# EAGLE library part BIAS-COIL (library ampex)
BIAS TRANSFORMER
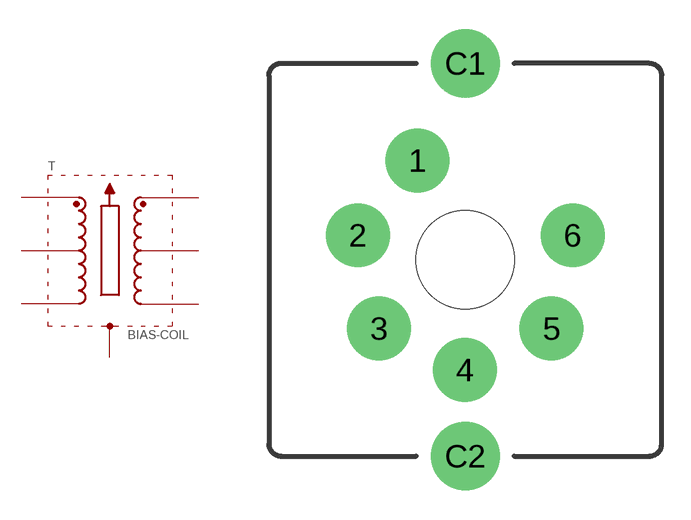
[diagram p24: symbol with the pads of BIAS-COIL; footprint BIAS-COIL]

Designator prefix T

## BIAS-COIL  [BIAS-COIL]
1  1  pas
2  2  pas
3  3  pas
4  4  pas
5  5  pas
6  6  pas
C1  C1  pas
C2  C1  pas

## Footprint BIAS-COIL (pad centres in mm)
BIAS TRANSFORMER
drill 1.778 pad 3.302: 1 -2.473,5.135; 2 -5.557,1.268; 3 -4.456,-3.554; 4 -0.011,-5.7; 5 4.456,-3.554; 6 5.557,1.268
drill 1.778 pad 3.556: C1 0,10.16; C2 0,-10.16
hole 5.08 at 0,0